# Altium schematic symbol library ADUM5211BRSZ.SchLib: 1 symbol
Pins are listed as number, name and electrical type; pins without a type are passive.

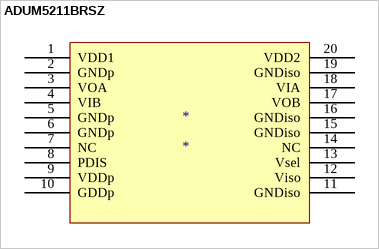
[diagram p0: symbol ADUM5211BRSZ]

## ADUM5211BRSZ
designator *
footprint *SOP65P780X200-20N
pins: 1 VDD1, 2 GNDp, 3 VOA, 4 VIB, 5 GNDp, 6 GNDp, 7 NC, 8 PDIS, 9 VDDp, 10 GDDp, 11 GNDiso, 12 Viso, 13 Vsel, 14 NC, 15 GNDiso, 16 GNDiso, 17 VOB, 18 VIA, 19 GNDiso, 20 VDD2